# EAGLE library part ESP32_30PIN (library LocalLib)
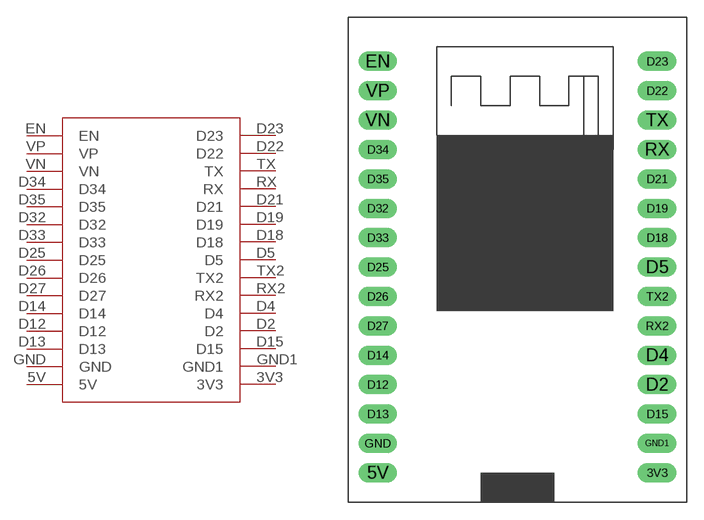
[diagram p4: symbol with the pads of ESP32_30PIN; footprint ESP32_30PIN]

Designator prefix -

## ESP32_30PIN  [ESP32_30PIN]
3V3  3V3
5V  5V
D2  D2
D4  D4
D5  D5
D12  D12
D13  D13
D14  D14
D15  D15
D18  D18
D19  D19
D21  D21
D22  D22
D23  D23
D25  D25
D26  D26
D27  D27
D32  D32
D33  D33
D34  D34
D35  D35
EN  EN
GND  GND
GND1  GND1
RX  RX
RX2  RX2
TX  TX
TX2  TX2
VN  VN
VP  VP

## Footprint ESP32_30PIN (pad centres in mm)
drill 1 pad 1.676 long: 3V3 26.67,2.54; 5V 2.54,2.54; D2 26.67,10.16; D4 26.67,12.7; D5 26.67,20.32; D12 2.54,10.16; D13 2.54,7.62; D14 2.54,12.7; D15 26.67,7.62; D18 26.67,22.86; D19 26.67,25.4; D21 26.67,27.94; D22 26.67,35.56; D23 26.67,38.1; D25 2.54,20.32; D26 2.54,17.78; D27 2.54,15.24; D32 2.54,25.4; D33 2.54,22.86; D34 2.54,30.48; D35 2.54,27.94; EN 2.54,38.1; GND 2.54,5.08; GND1 26.67,5.08; RX 26.67,30.48; RX2 26.67,15.24; TX 26.67,33.02; TX2 26.67,17.78; VN 2.54,33.02; VP 2.54,35.56